# Altium schematic symbol library Opto-Isolator,Photovoltaic Output,3.75kV,SMD.Schlib: 1 symbol
Pins are listed as number, name and electrical type; pins without a type are passive.

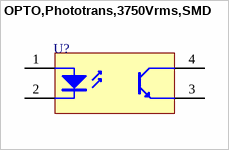
[diagram p0: symbol OPTO,Phototrans,3750Vrms,SMD]

## OPTO,Phototrans,3750Vrms,SMD
designator U?
pins: 1 A "Anode", 2 K "Cathode", 3 E "Emitter", 4 C "Collector"